# EAGLE library part USR-WIFI232-L (library X893)
http://en.usr.cn/download/USR-WIFI232-L.pdf
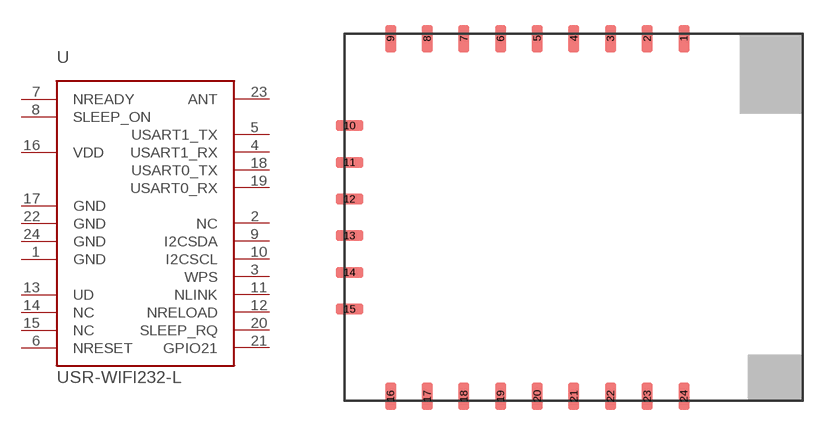
[diagram p175: symbol with the pads of USR-WIFI232-L; footprint USR-WIFI232-L]

Designator prefix U

## USR-WIFI232-L  [USR-WIFI232-L]
1  GND
2  NC
3  WPS  in
4  USART1_RX  in
5  USART1_TX  out
6  NRESET  in
7  NREADY  out
8  SLEEP_ON  out
9  I2CSDA
10  I2CSCL  out
11  NLINK  out
12  NRELOAD  in
13  UD  in
14  NC
15  NC
16  VDD
17  GND
18  USART0_TX  out
19  USART0_RX  in
20  SLEEP_RQ  in
21  GPIO21
22  GND
23  ANT
24  GND

## Footprint USR-WIFI232-L (pad centres in mm)
smd 0.6 x 1.5: 1 6,9.75; 2 4,9.75; 3 2,9.75; 4 0,9.75; 5 -2,9.75; 6 -4,9.75; 7 -6,9.75; 8 -8,9.75; 9 -10,9.75; 16 -10,-9.75; 17 -8,-9.75; 18 -6,-9.75; 19 -4,-9.75; 20 -2,-9.75; 21 0,-9.75; 22 2,-9.75; 23 4,-9.75; 24 6,-9.75
smd 1.5 x 0.6: 10 -12.25,5; 11 -12.25,3; 12 -12.25,1; 13 -12.25,-1; 14 -12.25,-3; 15 -12.25,-5